# EAGLE library part SI8620 (library silabs-isolators)
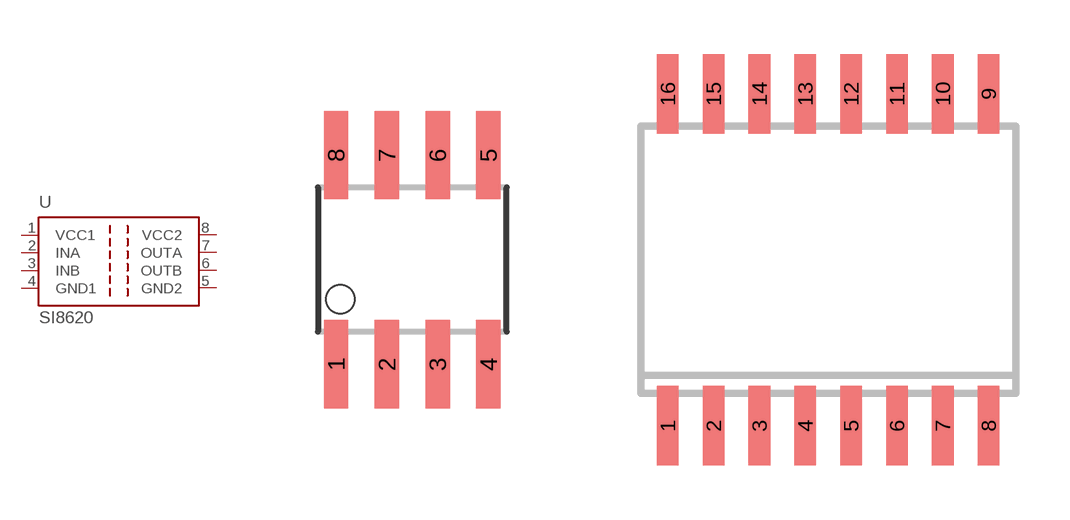
[diagram p4: symbol with the pads of SO08; footprints SO08, SO16W]

Designator prefix -

## SI8620AA (ISO: 1kV; SPEED: 1MSps), SI8620BA (ISO: 1kV; SPEED: 150MSps), SI8620EA (ISO: 1kV; SPEED: 150MSps)  [SO08]
1  VCC1  pwr
2  INA  in
3  INB  in
4  GND1  pwr
5  GND2  pwr
6  OUTB  out
7  OUTA  out
8  VCC2  pwr

## SI8620AD (ISO: 5kV; SPEED: 1MSps), SI8620BD (ISO: 5kV; SPEED: 150MSps), SI8620ED (ISO: 5kV; SPEED: 150MSps)  [SO16W]
1  GND1  pwr
3  VCC1  pwr
4  INA  in
5  INB  in
7  GND1  pwr
9  GND2  pwr
12  OUTB  out
13  OUTA  out
14  VCC2  pwr
16  GND2  pwr

## SI8620AB (ISO: 2.5kV; SPEED: 1MSps), SI8620BB (ISO: 2.5kV; SPEED: 150MSps), SI8620EB (ISO: 2.5kV; SPEED: 150MSps)  [SO08]
Pads as for SO08

## SI8620AC (ISO: 3.75kV; SPEED: 1MSps), SI8620BC (ISO: 3.75kV; SPEED: 150MSps), SI8620EC (ISO: 3.75kV; SPEED: 150MSps)  [SO08]
Pads as for SO08

## Footprint SO08 (pad centres in mm)
Small Outline Package
smd 0.61 x 2.21: 1 -1.905,-2.616; 2 -0.635,-2.616; 3 0.635,-2.616; 4 1.905,-2.616; 5 1.905,2.616; 6 0.635,2.616; 7 -0.635,2.616; 8 -1.905,2.616

## Footprint SO16W (pad centres in mm)
SMALL OUTLINE INTEGRATED CIRCUIT wide body 7.5 mm/JEDEC MS-013AA
smd 0.6 x 2.2: 1 -4.445,-4.6; 2 -3.175,-4.6; 3 -1.905,-4.6; 4 -0.635,-4.6; 5 0.635,-4.6; 6 1.905,-4.6; 7 3.175,-4.6; 8 4.445,-4.6; 9 4.445,4.6; 10 3.175,4.6; 11 1.905,4.6; 12 0.635,4.6; 13 -0.635,4.6; 14 -1.905,4.6; 15 -3.175,4.6; 16 -4.445,4.6